# EAGLE library part 16PIN (library JST_ePH)
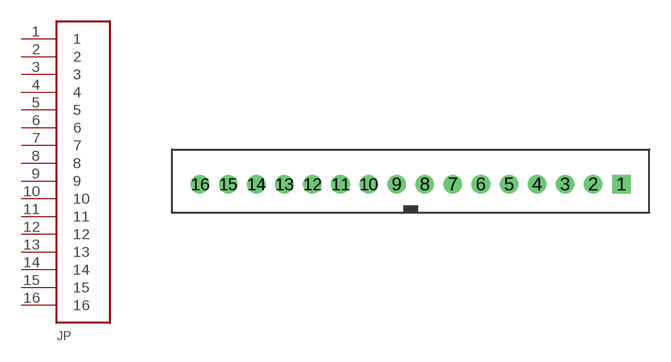
[diagram p10: symbol with the pads of B16B-PH-K-S; footprint B16B-PH-K-S]

Designator prefix JP

## 16PIN  [B16B-PH-K-S]
1  1
2  2
3  3
4  4
5  5
6  6
7  7
8  8
9  9
10  10
11  11
12  12
13  13
14  14
15  15
16  16

## Footprint B16B-PH-K-S (pad centres in mm)
drill 0.813 square: 1 15,0
drill 0.813 round: 2 13,0; 3 11,0; 4 9,0; 5 7,0; 6 5,0; 7 3,0; 8 1,0; 9 -1,0; 10 -3,0; 11 -5,0; 12 -7,0; 13 -9,0; 14 -11,0; 15 -13,0; 16 -15,0